# Altium footprint library TDFN-2x2-8L.PcbLib: 1 footprints
Each footprint in its own frame and in the unit in brackets; x right, y up, seen from the top. Pads: shape width x height; smd on the part's side, far side on the other; paste and mask are expansions set on the pad; w line width, h text height; cw(c..) or ccw(c..) is an arc to the next point about the centre after c.
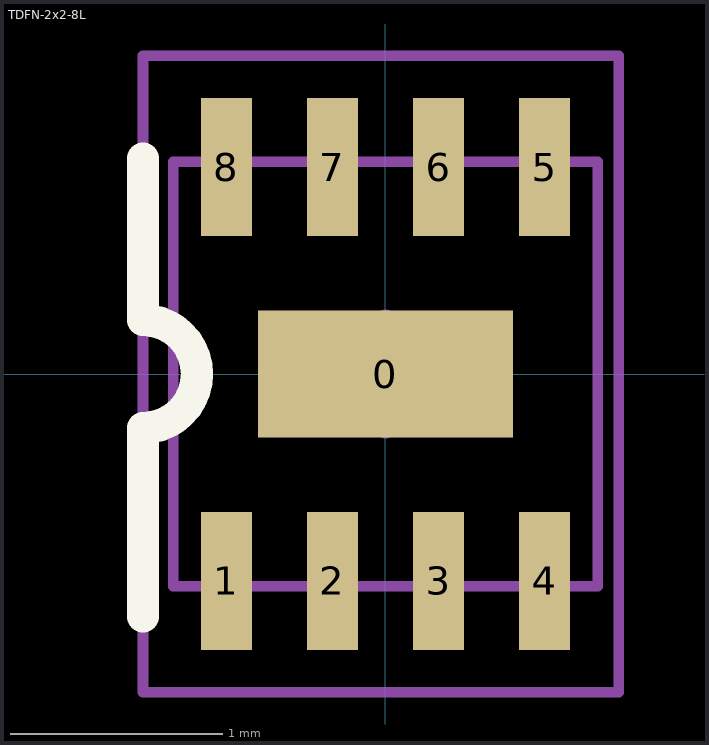
[diagram p0: the footprint, top view; thin cyan lines are the x and y axes]

## TDFN-2x2-8L [mm]
height 0.8
pads (9):
  rect 1.2x0.6 smd: 0(0,0)
  rect 0.24x0.65 smd: 1(-0.75,-0.975) 2(-0.25,-0.975) 3(0.25,-0.975) 4(0.75,-0.975) 5(0.75,0.975) 6(0.25,0.975) 7(-0.25,0.975) 8(-0.75,0.975)
Top Overlay:
  lines w0.152: -1.143,-1.143 -1.143,-0.381 -1.143,-0.254 ccw(c-1.143,0) -0.889,0 ccw(c-1.143,0) -1.143,0.254 -1.143,0.381 -1.143,1.016
Mechanical 13:
  lines w0.05: -1,-1 1,-1 1,1 -1,1 -1,-1
Mechanical 15:
  lines w0.05: -1.143,-1.5 -1.143,1.5 1.1,1.5 1.1,-1.5 -1.143,-1.5
  lines w0.1: -0.254,0 0.254,0 ; 0,-0.254 0,0.254
3D body: height 0.75, standoff 0, extent -1,-1.025 1,1.025